# Altium footprint library ERA6VK.PcbLib: 1 footprints
Each footprint in its own frame and in the unit in brackets; x right, y up, seen from the top. Pads: shape width x height; smd on the part's side, far side on the other; paste and mask are expansions set on the pad; w line width, h text height; cw(c..) or ccw(c..) is an arc to the next point about the centre after c.
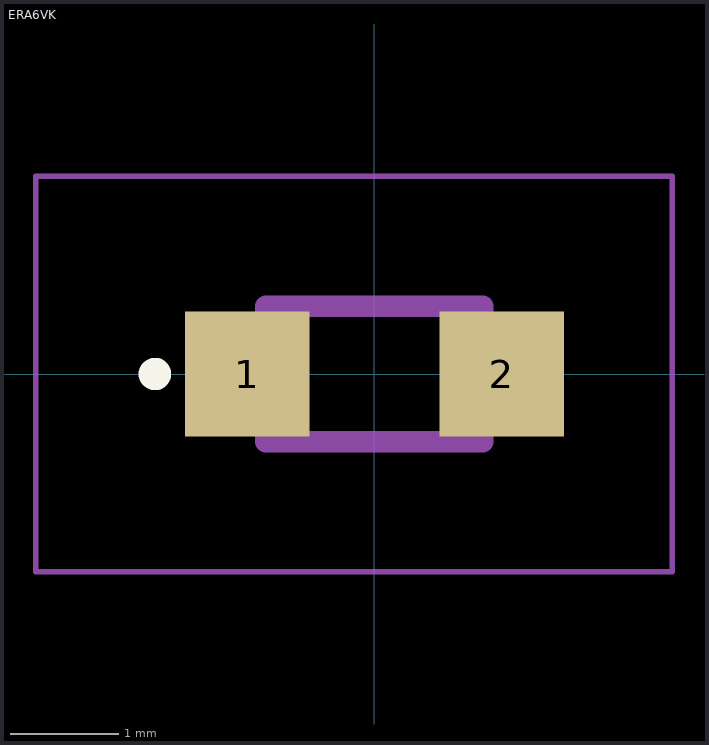
[diagram p0: the footprint, top view; thin cyan lines are the x and y axes]

## ERA6VK [mm]
pads (2):
  rect 1.15x1.15 smd: 1(-1.175,0) 2(1.175,0)
Top Overlay:
  circle w0.2: c-2.025,0 r0.05
Mechanical 15:
  lines w0.2: -1,-0.625 1,-0.625 1,0.625 -1,0.625 -1,-0.625
Mechanical 20:
  lines w0.05: -3.125,-1.825 2.75,-1.825 2.75,1.825 -3.125,1.825 -3.125,-1.825
3D body "ERA-6VEB1000V.stp": height 5.8, standoff -4.65, extent -10,-3.376 10,3.376